# Altium schematic symbol library OPA392DBVR.SchLib: 1 symbol
Pins are listed as number, name and electrical type; pins without a type are passive.

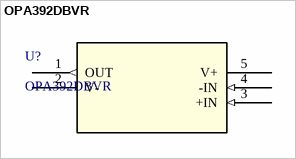
[diagram p0: symbol OPA392DBVR]

## OPA392DBVR
designator U?
Single, low-offset (10 Î¼V), low-noise (4.4 nV/rtHz @10kHz) femtoamp-bias-current e-trimâ„¢ op amp 5-SOT-23 -40 to 125; Manufacturer_Name: Texas Instruments; Copyright: Copyright (C) 2026 Ultra Librarian. All rights reserved.; Manufacturer_Part_Number: OPA392DBVR; RefDes: RefDes; Type: Type
footprint SOT-23-5_DBV_TEX
pins: 1 OUT (out), 2 V- (power), 3 +IN (in), 4 -IN (in), 5 V+ (power)